# Altium schematic symbol library smd_sch_lib.SchLib: 10 symbols
Pins are listed as number, name and electrical type; pins without a type are passive.

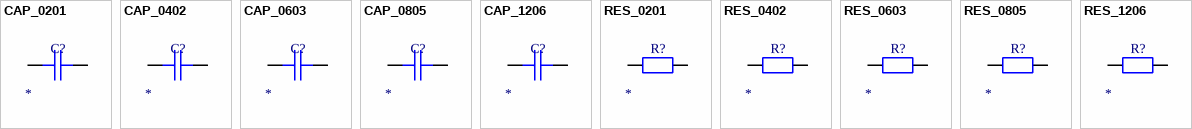
[diagram p0: symbols CAP_0201 to RES_1206]

## CAP_0201
designator C?
LCSC: *; Tolerance: *; Voltage Rating: *; Capacitor Type: *; Value: *
footprint CAP_0201
pins: 1, 2

## CAP_0402
designator C?
LCSC: *; Tolerance: *; Voltage Rating: *; Capacitor Type: *; Value: *
footprint CAP_0402
pins: 1, 2

## CAP_0603
designator C?
LCSC: *; Tolerance: *; Voltage Rating: *; Capacitor Type: *; Value: *
footprint CAP_0603
pins: 1, 2

## CAP_0805
designator C?
LCSC: *; Tolerance: *; Voltage Rating: *; Capacitor Type: *; Value: *
footprint CAP_0805
pins: 1, 2

## CAP_1206
designator C?
LCSC: *; Tolerance: *; Voltage Rating: *; Capacitor Type: *; Value: *
footprint CAP_1206
pins: 1, 2

## RES_0201
designator R?
LCSC: *; Tolerance: *; Voltage Rating: *; Value: *
footprint RES_0201
pins: 1, 2

## RES_0402
designator R?
LCSC: *; Tolerance: *; Voltage Rating: *; Value: *
footprint RES_0402
pins: 1, 2

## RES_0603
designator R?
LCSC: *; Tolerance: *; Voltage Rating: *; Value: *
footprint RES_0603
pins: 1, 2

## RES_0805
designator R?
LCSC: *; Tolerance: *; Voltage Rating: *; Value: *
footprint RES_0805
pins: 1, 2

## RES_1206
designator R?
LCSC: *; Tolerance: *; Voltage Rating: *; Value: *
footprint RES_1206
pins: 1, 2